# Altium schematic symbol library SMAJ5.0A.SchLib: 1 symbol
Pins are listed as number, name and electrical type; pins without a type are passive.

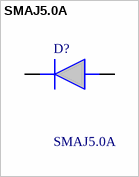
[diagram p0: symbol SMAJ5.0A]

## SMAJ5.0A
designator D?
BOURNS - SMAJ5.0A - TVS Diode, TRANSZORB SMAJ Series, Unidirectional, 5 V, 9.2 V, DO-214AC (SMA), 2 Pins; Geometry.Height: 2.29mm; Manufacturer_Name: Bourns; Manufacturer_Part_Number: SMAJ5.0A; Mouser Part Number: 652-SMAJ5.0A; Mouser Price/Stock: https://www.mouser.co.uk/ProductDetail/Bourns/SMAJ5.0A?qs=A3H9pljuJ8RbLIvzFxDfUA%3D%3D; Arrow Part Number: SMAJ5.0A; Arrow Price/Stock: https://www.arrow.com/en/products/smaj5.0a/bourns?utm_currency=USD&region=nac; Datasheet Link: https://detail.tmall.com/item.htm?id=548354020241&ali_refid=a3_430583_1006:1109983619:N:3Uw9kZ3UMDT/QL57nh1fXA==:ab063b49c94624768a940a913313feb0&ali_trackid=1_ab063b49c94624768a940a913313feb0&spm=a230r.1.14.1
footprint DIOM5026X229N
pins: 1 K, 2 A